# EAGLE library part 5WAY-10X10 (library pdxtrail)
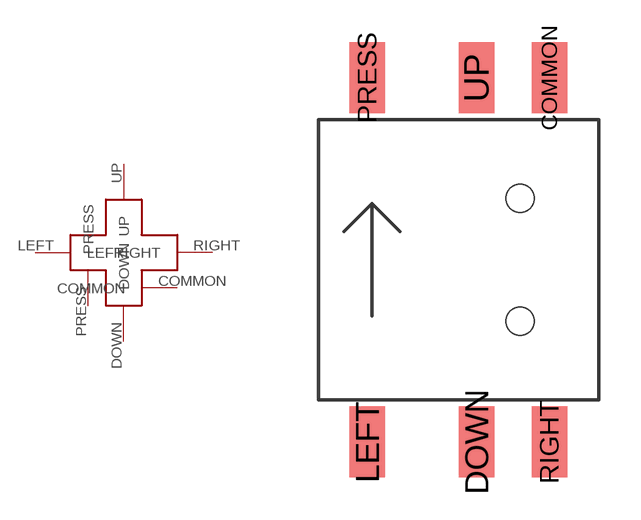
[diagram p0: symbol with the pads of 5WAY-10X10; footprint 5WAY-10X10]

Designator prefix -

## 5WAY-10X10  [5WAY-10X10]
COMMON  COMMON
DOWN  DOWN
LEFT  LEFT
PRESS  PRESS
RIGHT  RIGHT
UP  UP

## Footprint 5WAY-10X10 (pad centres in mm)
smd 1.27 x 2.54: COMMON 3.25,6.5; DOWN 0.65,-6.5; LEFT -3.25,-6.5; PRESS -3.25,6.5; RIGHT 3.25,-6.5; UP 0.65,6.5
hole 1 at 2.2,-2.2
hole 1 at 2.2,2.2